# Altium schematic symbol library lc29heamd.SchLib: 1 symbol
Pins are listed as number, name and electrical type; pins without a type are passive.

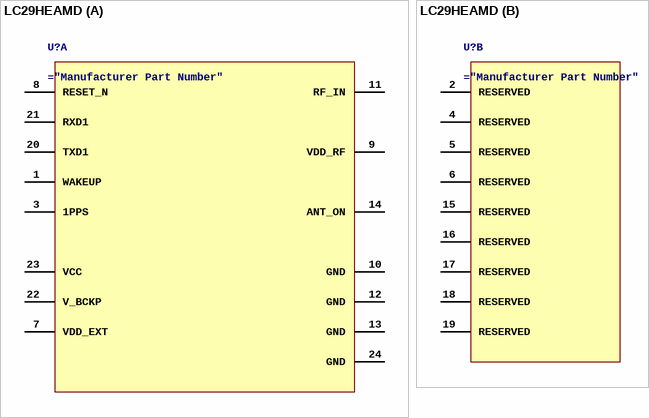
[diagram p0: symbol LC29HEAMD]

## LC29HEAMD
designator U?
Rf Txrx Module Navigation SMD
part A pins: 1 WAKEUP, 3 1PPS, 7 VDD_EXT, 8 RESET_N, 9 VDD_RF, 10 GND, 11 RF_IN, 12 GND, 13 GND, 14 ANT_ON, 20 TXD1, 21 RXD1, 22 V_BCKP, 23 VCC, 24 GND
part B pins: 2 RESERVED, 4 RESERVED, 5 RESERVED, 6 RESERVED, 15 RESERVED, 16 RESERVED, 17 RESERVED, 18 RESERVED, 19 RESERVED